# Altium footprint library UniversalConverter_Footprints.PcbLib: 20 footprints (part 2 of 2)
Each footprint in its own frame and in the unit in brackets; x right, y up, seen from the top. Pads: shape width x height; smd on the part's side, far side on the other; paste and mask are expansions set on the pad; w line width, h text height; cw(c..) or ccw(c..) is an arc to the next point about the centre after c.
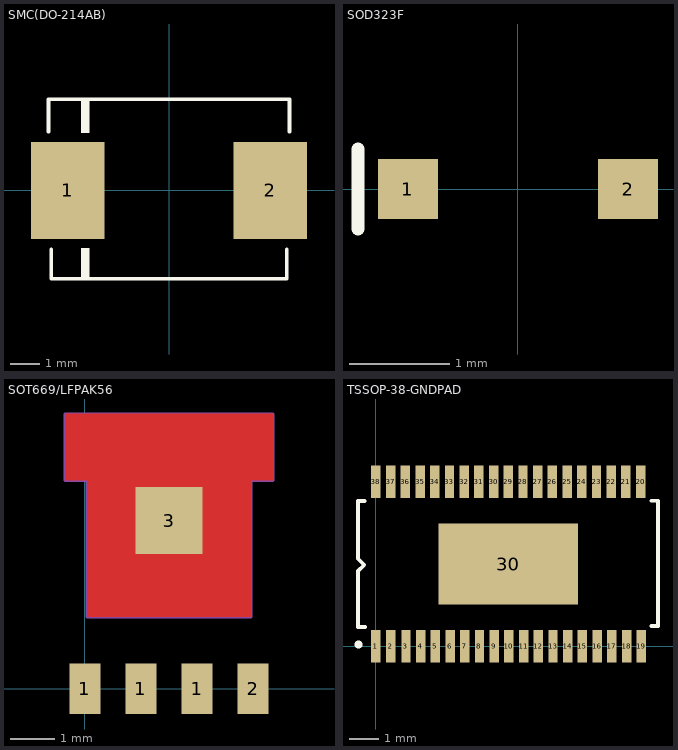
[diagram p1: the footprints below, top view; thin cyan lines are the x and y axes]

## SMC(DO-214AB) [mm]
pads (2):
  rect 2.5x3.3 smd: 1(-3.45,0) 2(3.45,0)
Top Overlay:
  rectangle: -3,-3 -2.7,-1.95
  rectangle: -3,1.95 -2.7,3.1
  lines w0.127: -4.1,2 -4.1,3.1 4.1,3.1 4.1,2 ; -4,-2 -4,-3 4,-3 4,-2
3D body "User Library-DO-214AB SMC.step": height 2.29, standoff -0.01, extent -3.975,-2.95 3.975,2.95

## SOD323F [mm]
pads (2):
  rect 0.6x0.6 smd mask+0.102: 1(-1.1,0) 2(1.1,0)
Top Overlay:
  lines w0.127: -1.6,-0.4 -1.6,0.4
3D body "SC-90_SOD323F_NEX.step": height 0.82, standoff 0, extent -1.346,-0.673 1.346,0.673

## SOT669/LFPAK56 [mm]
pads (5):
  rect 0.7x1.15 smd: 1(0,0) 1(1.27,0) 1(2.54,0) 2(3.81,0)
  rect 1.524x1.524 smd: 3(1.905,3.81)
Top Layer:
  region: -0.445,4.725 -0.445,6.225 4.255,6.225 4.255,4.725 3.755,4.725 3.755,1.625 0.055,1.625 0.055,4.725
Mechanical 1:
  lines w0.076: -0.445,4.725 0.055,4.725 0.055,1.625 3.755,1.625 3.755,4.725 4.255,4.725 4.255,6.225 1.905,6.225 -0.445,6.225 -0.445,4.725
3D body "LFPAK_REN.step": height 1.09, standoff 0, extent -0.546,-0.559 4.356,5.639

## TSSOP-38-GNDPAD [mm]
pads (39):
  rect 0.32x1.1 smd: 1(0,0) 2(0.5,0) 3(1.021,0) 4(1.521,0) 5(2.021,0) 6(2.521,0) 7(3.021,0) 8(3.521,0) 9(4.021,0) 10(4.521,0) 11(5.021,0) 12(5.521,0) 13(6.021,0) 14(6.521,0) 15(7.021,0) 16(7.521,0) 17(8.021,0) 18(8.521,0) 19(9.021,0) 20(9,5.6) 21(8.5,5.6) 22(8,5.6) 23(7.5,5.6) 24(7,5.6) 25(6.5,5.6) 26(6,5.6) 27(5.5,5.6) 28(5,5.6) 29(4.5,5.6) 30(4,5.6) 31(3.5,5.6) 32(3,5.6) 33(2.5,5.6) 34(2,5.6) 35(1.5,5.6) 36(1,5.6) 37(0.5,5.6) 38(0,5.6)
  rect 4.75x2.74 smd: 30(4.5,2.8)
Top Overlay:
  circle w0.254: c-0.59,0.06 r0.01
  lines w0.127: -0.39,4.94 -0.61,4.94 -0.61,2.98 -0.4,2.77 -0.61,2.56 -0.61,0.66 -0.37,0.66 ; 9.37,0.69 9.59,0.69 9.59,4.95 9.37,4.95
3D body "User Library-TSSOP-38-1.STEP": height 1.2, standoff 0, extent -0.34,-0.44 9.36,5.96